# EAGLE library part ISO1540 (library GibbotV5)
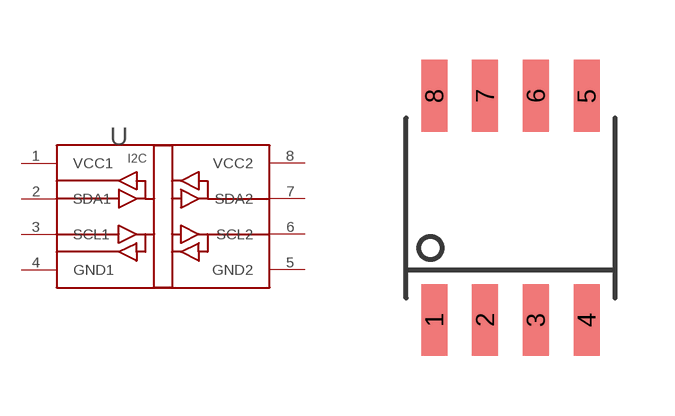
[diagram p20: symbol with the pads of SOIC8; footprint SOIC8]

Designator prefix -

## ISO1540  [SOIC8]
1  VCC1
2  SDA1
3  SCL1
4  GND1
5  GND2
6  SCL2
7  SDA2
8  VCC2

## Footprint SOIC8 (pad centres in mm)
smd 0.65 x 1.8: 1 -1.905,-2.8; 2 -0.635,-2.8; 3 0.635,-2.8; 4 1.905,-2.8; 5 1.905,2.8; 6 0.635,2.8; 7 -0.635,2.8; 8 -1.905,2.8